# Altium integrated library Cypress PLD Delta39K.IntLib: 82 symbols (part 3 of 21)
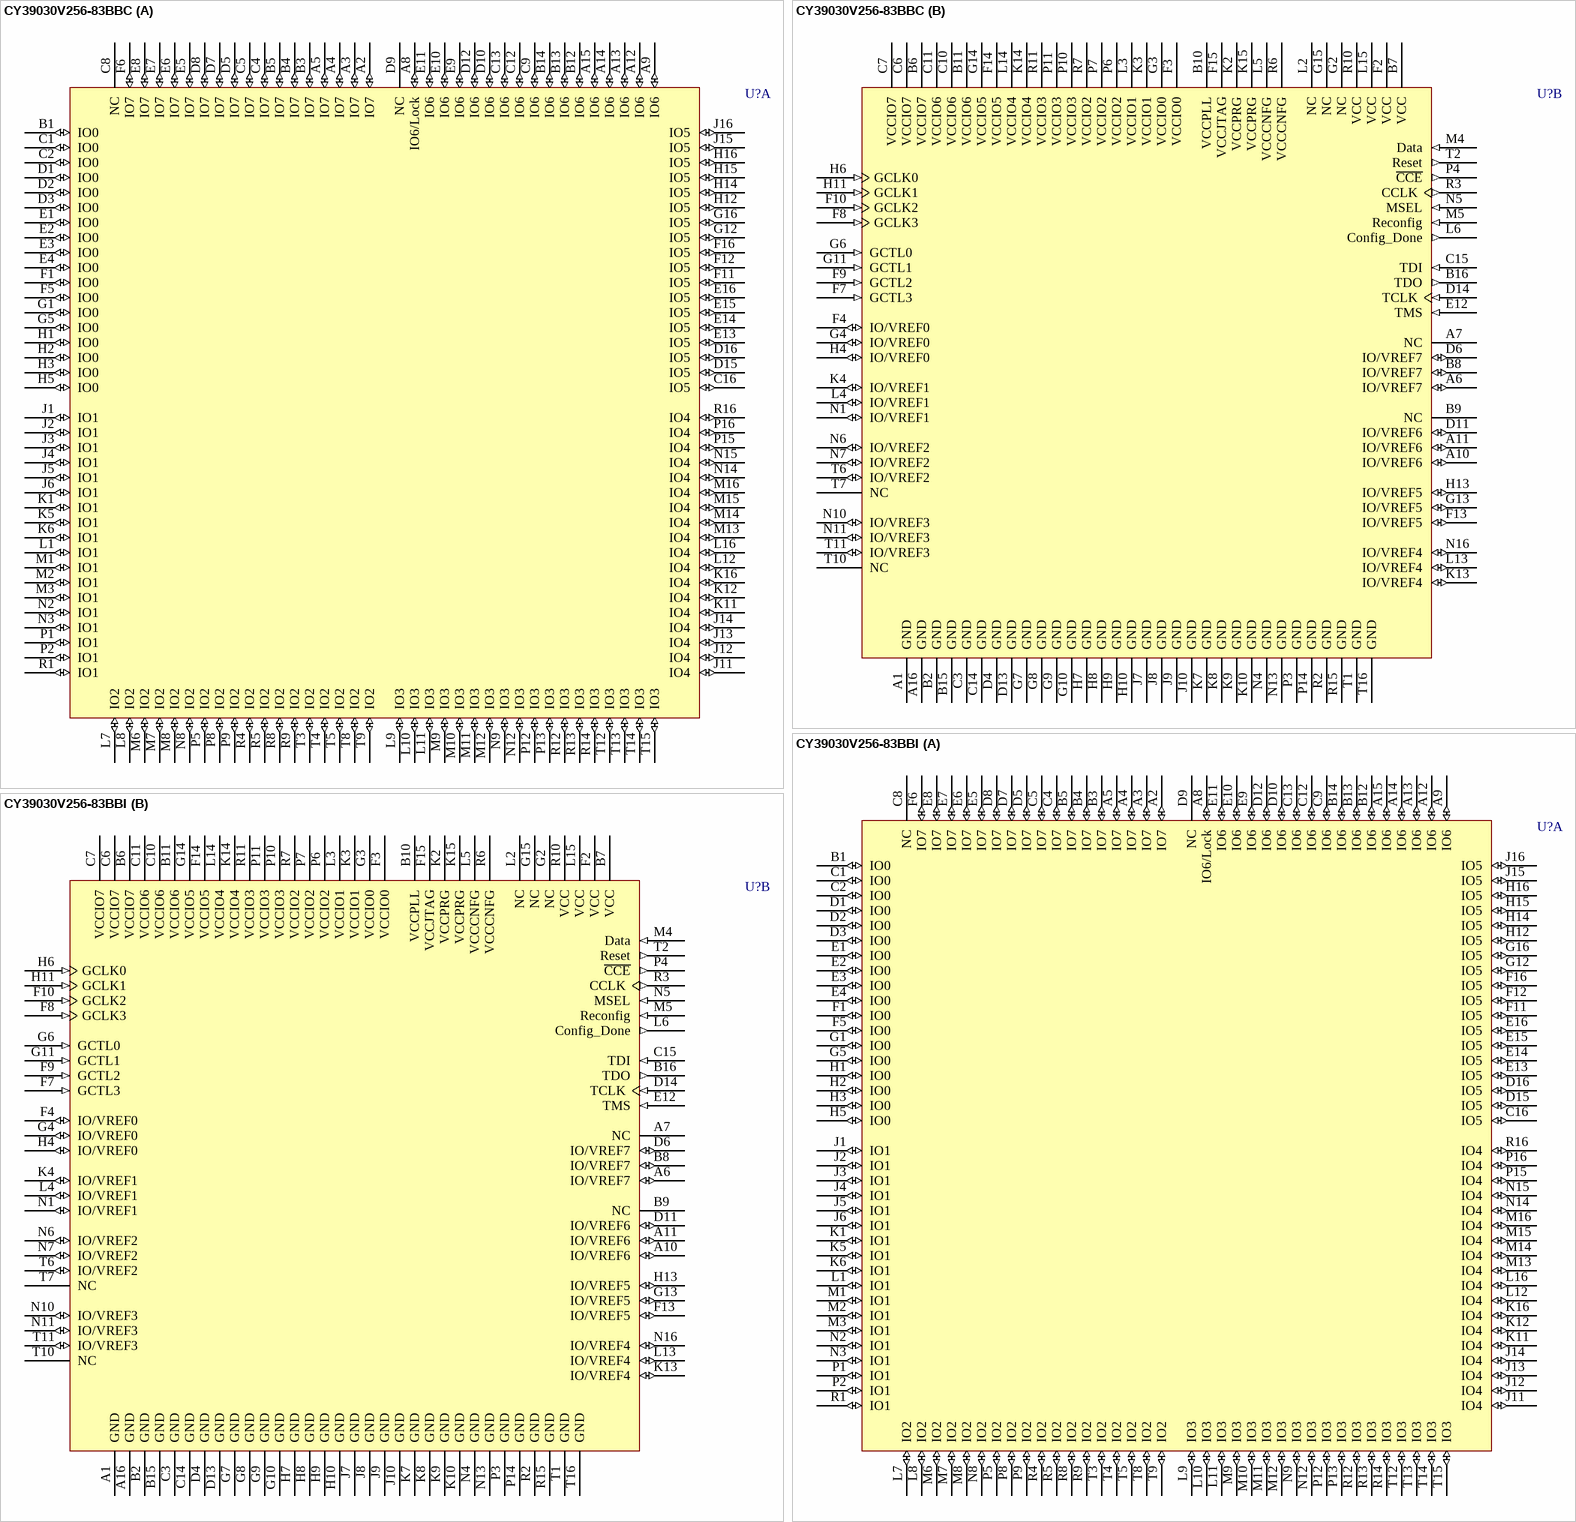
[diagram p80: symbols CY39030V256-83BBC to CY39030V256-83BBI]

## CY39030V256-83BBC
designator U?
Delta39K ISR CPLD, 3.3V/2.5V, 30K Gates, 83 MHz, 256-Ball FBGA, Commercial Grade; ComponentAvailability: Obsolete; Published: 11-Dec-2002; LatestRevisionDate: 13-Apr-2006; LatestRevisionNote: IPC-7351 Footprint Added.; DatasheetVersion: revI, Mar-2005; PackageVersion: revF, Oct-2003; PackageReference: BB256; Publisher: Altium Limited; PackageDescription: 256-Ball Fine Pitch Ball Grid Array 1 mm Pitch (37K & 39K CPLD Devices); Code_JEDEC: MO-192; ComponentLink1Description: Manufacturer Link; ComponentLink1URL: http://www.cypress.com/; ComponentLink2Description: Datasheet; ComponentLink2URL: http://www.cypress.com/portal/server.pt/gateway/PTARGS_0_601270_1522_209_0_43/http%3B/sjapp20.mis.cypress.com%3B7001/publishedcontent/publish/design_resources/datasheets/contents/cy39030v_5.pdf
footprint BB256 (BGA, 256-Leads, Body 17x17mm, Pitch 1mm)
3D model CY39030V256-BB256 (256-Ball Fine Pitch Ball Grid Array 1 mm Pitch (37K & 39K CPLD Devices))
part A pins: A2 IO7 (io) "IO for Bank 7", A3 IO7 (io) "IO for Bank 7", A4 IO7 (io) "IO for Bank 7", A5 IO7 (io) "IO for Bank 7", A8 IO6/Lock (io) "IO in Bank 6 or PLL lock output signal", A9 IO6 (io) "IO for Bank 6", A12 IO6 (io) "IO for Bank 6", A13 IO6 (io) "IO for Bank 6", A14 IO6 (io) "IO for Bank 6", A15 IO6 (io) "IO for Bank 6", B1 IO0 (io) "IO for Bank 0", B3 IO7 (io) "IO for Bank 7", B4 IO7 (io) "IO for Bank 7", B5 IO7 (io) "IO for Bank 7", B12 IO6 (io) "IO for Bank 6", B13 IO6 (io) "IO for Bank 6", B14 IO6 (io) "IO for Bank 6", C1 IO0 (io) "IO for Bank 0", C2 IO0 (io) "IO for Bank 0", C4 IO7 (io) "IO for Bank 7", C5 IO7 (io) "IO for Bank 7", C8 NC "No Connection", C9 IO6 (io) "IO for Bank 6", C12 IO6 (io) "IO for Bank 6", C13 IO6 (io) "IO for Bank 6", C16 IO5 (io) "IO for Bank 5", D1 IO0 (io) "IO for Bank 0", D2 IO0 (io) "IO for Bank 0", D3 IO0 (io) "IO for Bank 0", D5 IO7 (io) "IO for Bank 7", D7 IO7 (io) "IO for Bank 7", D8 IO7 (io) "IO for Bank 7", D9 NC "No Connection", D10 IO6 (io) "IO for Bank 6", D12 IO6 (io) "IO for Bank 6", D15 IO5 (io) "IO for Bank 5", D16 IO5 (io) "IO for Bank 5", E1 IO0 (io) "IO for Bank 0", E2 IO0 (io) "IO for Bank 0", E3 IO0 (io) "IO for Bank 0", E4 IO0 (io) "IO for Bank 0", E5 IO7 (io) "IO for Bank 7", E6 IO7 (io) "IO for Bank 7", E7 IO7 (io) "IO for Bank 7", E8 IO7 (io) "IO for Bank 7", E9 IO6 (io) "IO for Bank 6", E10 IO6 (io) "IO for Bank 6", E11 IO6 (io) "IO for Bank 6", E13 IO5 (io) "IO for Bank 5", E14 IO5 (io) "IO for Bank 5", E15 IO5 (io) "IO for Bank 5", E16 IO5 (io) "IO for Bank 5", F1 IO0 (io) "IO for Bank 0", F5 IO0 (io) "IO for Bank 0", F6 IO7 (io) "IO for Bank 7", F11 IO5 (io) "IO for Bank 5", F12 IO5 (io) "IO for Bank 5", F16 IO5 (io) "IO for Bank 5", G1 IO0 (io) "IO for Bank 0", G5 IO0 (io) "IO for Bank 0", G12 IO5 (io) "IO for Bank 5", G16 IO5 (io) "IO for Bank 5", H1 IO0 (io) "IO for Bank 0", H2 IO0 (io) "IO for Bank 0", H3 IO0 (io) "IO for Bank 0", H5 IO0 (io) "IO for Bank 0", H12 IO5 (io) "IO for Bank 5", H14 IO5 (io) "IO for Bank 5", H15 IO5 (io) "IO for Bank 5", H16 IO5 (io) "IO for Bank 5", J1 IO1 (io) "IO for Bank 1", J2 IO1 (io) "IO for Bank 1", J3 IO1 (io) "IO for Bank 1", J4 IO1 (io) "IO for Bank 1", J5 IO1 (io) "IO for Bank 1", J6 IO1 (io) "IO for Bank 1", J11 IO4 (io) "IO for Bank 4", J12 IO4 (io) "IO for Bank 4", J13 IO4 (io) "IO for Bank 4", J14 IO4 (io) "IO for Bank 4", J15 IO5 (io) "IO for Bank 5", J16 IO5 (io) "IO for Bank 5", K1 IO1 (io) "IO for Bank 1", K5 IO1 (io) "IO for Bank 1", K6 IO1 (io) "IO for Bank 1", K11 IO4 (io) "IO for Bank 4", K12 IO4 (io) "IO for Bank 4", K16 IO4 (io) "IO for Bank 4", L1 IO1 (io) "IO for Bank 1", L7 IO2 (io) "IO for Bank 2", L8 IO2 (io) "IO for Bank 2", L9 IO3 (io) "IO for Bank 3", L10 IO3 (io) "IO for Bank 3", L11 IO3 (io) "IO for Bank 3", L12 IO4 (io) "IO for Bank 4", L16 IO4 (io) "IO for Bank 4", M1 IO1 (io) "IO for Bank 1", M2 IO1 (io) "IO for Bank 1", M3 IO1 (io) "IO for Bank 1", M6 IO2 (io) "IO for Bank 2", M7 IO2 (io) "IO for Bank 2", M8 IO2 (io) "IO for Bank 2", M9 IO3 (io) "IO for Bank 3", M10 IO3 (io) "IO for Bank 3", M11 IO3 (io) "IO for Bank 3", M12 IO3 (io) "IO for Bank 3", M13 IO4 (io) "IO for Bank 4", M14 IO4 (io) "IO for Bank 4", M15 IO4 (io) "IO for Bank 4", M16 IO4 (io) "IO for Bank 4", N2 IO1 (io) "IO for Bank 1", N3 IO1 (io) "IO for Bank 1", N8 IO2 (io) "IO for Bank 2", N9 IO3 (io) "IO for Bank 3", N12 IO3 (io) "IO for Bank 3", N14 IO4 (io) "IO for Bank 4", N15 IO4 (io) "IO for Bank 4", P1 IO1 (io) "IO for Bank 1", P2 IO1 (io) "IO for Bank 1", P5 IO2 (io) "IO for Bank 2", P8 IO2 (io) "IO for Bank 2", P9 IO2 (io) "IO for Bank 2", P12 IO3 (io) "IO for Bank 3", P13 IO3 (io) "IO for Bank 3", P15 IO4 (io) "IO for Bank 4", P16 IO4 (io) "IO for Bank 4", R1 IO1 (io) "IO for Bank 1", R4 IO2 (io) "IO for Bank 2", R5 IO2 (io) "IO for Bank 2", R8 IO2 (io) "IO for Bank 2", R9 IO2 (io) "IO for Bank 2", R12 IO3 (io) "IO for Bank 3", R13 IO3 (io) "IO for Bank 3", R14 IO3 (io) "IO for Bank 3", R16 IO4 (io) "IO for Bank 4", T3 IO2 (io) "IO for Bank 2", T4 IO2 (io) "IO for Bank 2", T5 IO2 (io) "IO for Bank 2", T8 IO2 (io) "IO for Bank 2", T9 IO2 (io) "IO for Bank 2", T12 IO3 (io) "IO for Bank 3", T13 IO3 (io) "IO for Bank 3", T14 IO3 (io) "IO for Bank 3", T15 IO3 (io) "IO for Bank 3"
part B pins: A1 GND (power) "Ground", A6 IO/VREF7 (io) "IO or Reference Voltage for Bank 7", A7 NC "No Connection", A10 IO/VREF6 (io) "IO or Reference Voltage for Bank 6", A11 IO/VREF6 (io) "IO or Reference Voltage for Bank 6", A16 GND (power) "Ground", B2 GND (power) "Ground", B6 VCCIO7 (power) "VCC for I/O bank 7", B7 VCC (power) "Operating Voltage", B8 IO/VREF7 (io) "IO or Reference Voltage for Bank 7", B9 NC "No Connection", B10 VCCPLL (power) "VCC for PLL", B11 VCCIO6 (power) "VCC for I/O bank 6", B15 GND (power) "Ground", B16 TDO (out) "JTAG Test Data Out", C3 GND (power) "Ground", C6 VCCIO7 (power) "VCC for I/O bank 7", C7 VCCIO7 (power) "VCC for I/O bank 7", C10 VCCIO6 (power) "VCC for I/O bank 6", C11 VCCIO6 (power) "VCC for I/O bank 6", C14 GND (power) "Ground", C15 TDI (in) "JTAG Test Data In", D4 GND (power) "Ground", D6 IO/VREF7 (io) "IO or Reference Voltage for Bank 7", D11 IO/VREF6 (io) "IO or Reference Voltage for Bank 6", D13 GND (power) "Ground", D14 TCLK (in) "JTAG Test Clock", E12 TMS (in) "JTAG Test Mode Select", F2 VCC (power) "Operating Voltage", F3 VCCIO0 (power) "VCC for I/O bank 0", F4 IO/VREF0 (io) "IO or Reference Voltage for Bank 0", F7 GCTL3 (in) "Global Control signal 3", F8 GCLK3 (in) "Global Clock signal 3", F9 GCTL2 (in) "Global Control signal 2", F10 GCLK2 (in) "Global Clock signal 2", F13 IO/VREF5 (io) "IO or Reference Voltage for Bank 5", F14 VCCIO5 (power) "VCC for I/O bank 5", F15 VCCJTAG (power) "VCC for JTAG pins", G2 NC "No Connection", G3 VCCIO0 (power) "VCC for I/O bank 0", G4 IO/VREF0 (io) "IO or Reference Voltage for Bank 0", G6 GCTL0 (in) "Global Control signal 0", G7 GND (power) "Ground", G8 GND (power) "Ground", G9 GND (power) "Ground", G10 GND (power) "Ground", G11 GCTL1 (in) "Global Control signal 1", G13 IO/VREF5 (io) "IO or Reference Voltage for Bank 5", G14 VCCIO5 (power) "VCC for I/O bank 5", G15 NC "No Connection", H4 IO/VREF0 (io) "IO or Reference Voltage for Bank 0", H6 GCLK0 (in) "Global Clock signal 0", H7 GND (power) "Ground", H8 GND (power) "Ground", H9 GND (power) "Ground", H10 GND (power) "Ground", H11 GCLK1 (in) "Global Clock signal 1", H13 IO/VREF5 (io) "IO or Reference Voltage for Bank 5", J7 GND (power) "Ground", J8 GND (power) "Ground", J9 GND (power) "Ground", J10 GND (power) "Ground", K2 VCCPRG (power) "VCC for programming Self-Boot solution embedded boot PROM", K3 VCCIO1 (power) "VCC for I/O bank 1", K4 IO/VREF1 (io) "IO or Reference Voltage for Bank 1", K7 GND (power) "Ground", K8 GND (power) "Ground", K9 GND (power) "Ground", K10 GND (power) "Ground", K13 IO/VREF4 (io) "IO or Reference Voltage for Bank 4", K14 VCCIO4 (power) "VCC for I/O bank 4", K15 VCCPRG (power) "VCC for programming Self-Boot solution embedded boot PROM", L2 NC "No Connection", L3 VCCIO1 (power) "VCC for I/O bank 1", L4 IO/VREF1 (io) "IO or Reference Voltage for Bank 1", L5 VCCCNFG (power) "VCC for Configuration port", L6 Config_Done (out) "Flag indicating that configuration is complete", L13 IO/VREF4 (io) "IO or Reference Voltage for Bank 4", L14 VCCIO4 (power) "VCC for I/O bank 4", L15 VCC (power) "Operating Voltage", M4 Data (in) "Pin to receive configuration data from the external boot PROM", M5 Reconfig (in) "Pin to start configuration of Delta39K", N1 IO/VREF1 (io) "IO or Reference Voltage for Bank 1", N4 GND (power) "Ground", N5 MSEL (in) "Mode Select Pin", N6 IO/VREF2 (io) "IO or Reference Voltage for Bank 2", N7 IO/VREF2 (io) "IO or Reference Voltage for Bank 2", N10 IO/VREF3 (io) "IO or Reference Voltage for Bank 3", N11 IO/VREF3 (io) "IO or Reference Voltage for Bank 3", N13 GND (power) "Ground", N16 IO/VREF4 (io) "IO or Reference Voltage for Bank 4", P3 GND (power) "Ground", P4 ~{CCE} (out) "Chip select for the external boot PROM (active low)", P6 VCCIO2 (power) "VCC for I/O bank 2", P7 VCCIO2 (power) "VCC for I/O bank 2", P10 VCCIO3 (power) "VCC for I/O bank 3", P11 VCCIO3 (power) "VCC for I/O bank 3", P14 GND (power) "Ground", R2 GND (power) "Ground", R3 CCLK (out) "Configuration Clock for serial interface with the external boot PROM", R6 VCCCNFG (power) "VCC for Configuration port", R7 VCCIO2 (power) "VCC for I/O bank 2", R10 VCC (power) "Operating Voltage", R11 VCCIO3 (power) "VCC for I/O bank 3", R15 GND (power) "Ground", T1 GND (power) "Ground", T2 Reset (out) "Reset signal to interface with the external boot PROM", T6 IO/VREF2 (io) "IO or Reference Voltage for Bank 2", T7 NC "No Connection", T10 NC "No Connection", T11 IO/VREF3 (io) "IO or Reference Voltage for Bank 3", T16 GND (power) "Ground"

## CY39030V256-83BBI
designator U?
Delta39K ISR CPLD, 3.3V/2.5V, 30K Gates, 83 MHz, 256-Ball FBGA, Industrial Grade; ComponentAvailability: Obsolete; Published: 11-Dec-2002; LatestRevisionDate: 13-Apr-2006; LatestRevisionNote: IPC-7351 Footprint Added.; DatasheetVersion: revI, Mar-2005; PackageVersion: revF, Oct-2003; PackageReference: BB256; Publisher: Altium Limited; PackageDescription: 256-Ball Fine Pitch Ball Grid Array 1 mm Pitch (37K & 39K CPLD Devices); Code_JEDEC: MO-192; ComponentLink1Description: Manufacturer Link; ComponentLink1URL: http://www.cypress.com/; ComponentLink2Description: Datasheet; ComponentLink2URL: http://www.cypress.com/portal/server.pt/gateway/PTARGS_0_601270_1522_209_0_43/http%3B/sjapp20.mis.cypress.com%3B7001/publishedcontent/publish/design_resources/datasheets/contents/cy39030v_5.pdf
footprint BB256 (BGA, 256-Leads, Body 17x17mm, Pitch 1mm)
3D model CY39030V256-BB256 (256-Ball Fine Pitch Ball Grid Array 1 mm Pitch (37K & 39K CPLD Devices))
part A pins: A2 IO7 (io) "IO for Bank 7", A3 IO7 (io) "IO for Bank 7", A4 IO7 (io) "IO for Bank 7", A5 IO7 (io) "IO for Bank 7", A8 IO6/Lock (io) "IO in Bank 6 or PLL lock output signal", A9 IO6 (io) "IO for Bank 6", A12 IO6 (io) "IO for Bank 6", A13 IO6 (io) "IO for Bank 6", A14 IO6 (io) "IO for Bank 6", A15 IO6 (io) "IO for Bank 6", B1 IO0 (io) "IO for Bank 0", B3 IO7 (io) "IO for Bank 7", B4 IO7 (io) "IO for Bank 7", B5 IO7 (io) "IO for Bank 7", B12 IO6 (io) "IO for Bank 6", B13 IO6 (io) "IO for Bank 6", B14 IO6 (io) "IO for Bank 6", C1 IO0 (io) "IO for Bank 0", C2 IO0 (io) "IO for Bank 0", C4 IO7 (io) "IO for Bank 7", C5 IO7 (io) "IO for Bank 7", C8 NC "No Connection", C9 IO6 (io) "IO for Bank 6", C12 IO6 (io) "IO for Bank 6", C13 IO6 (io) "IO for Bank 6", C16 IO5 (io) "IO for Bank 5", D1 IO0 (io) "IO for Bank 0", D2 IO0 (io) "IO for Bank 0", D3 IO0 (io) "IO for Bank 0", D5 IO7 (io) "IO for Bank 7", D7 IO7 (io) "IO for Bank 7", D8 IO7 (io) "IO for Bank 7", D9 NC "No Connection", D10 IO6 (io) "IO for Bank 6", D12 IO6 (io) "IO for Bank 6", D15 IO5 (io) "IO for Bank 5", D16 IO5 (io) "IO for Bank 5", E1 IO0 (io) "IO for Bank 0", E2 IO0 (io) "IO for Bank 0", E3 IO0 (io) "IO for Bank 0", E4 IO0 (io) "IO for Bank 0", E5 IO7 (io) "IO for Bank 7", E6 IO7 (io) "IO for Bank 7", E7 IO7 (io) "IO for Bank 7", E8 IO7 (io) "IO for Bank 7", E9 IO6 (io) "IO for Bank 6", E10 IO6 (io) "IO for Bank 6", E11 IO6 (io) "IO for Bank 6", E13 IO5 (io) "IO for Bank 5", E14 IO5 (io) "IO for Bank 5", E15 IO5 (io) "IO for Bank 5", E16 IO5 (io) "IO for Bank 5", F1 IO0 (io) "IO for Bank 0", F5 IO0 (io) "IO for Bank 0", F6 IO7 (io) "IO for Bank 7", F11 IO5 (io) "IO for Bank 5", F12 IO5 (io) "IO for Bank 5", F16 IO5 (io) "IO for Bank 5", G1 IO0 (io) "IO for Bank 0", G5 IO0 (io) "IO for Bank 0", G12 IO5 (io) "IO for Bank 5", G16 IO5 (io) "IO for Bank 5", H1 IO0 (io) "IO for Bank 0", H2 IO0 (io) "IO for Bank 0", H3 IO0 (io) "IO for Bank 0", H5 IO0 (io) "IO for Bank 0", H12 IO5 (io) "IO for Bank 5", H14 IO5 (io) "IO for Bank 5", H15 IO5 (io) "IO for Bank 5", H16 IO5 (io) "IO for Bank 5", J1 IO1 (io) "IO for Bank 1", J2 IO1 (io) "IO for Bank 1", J3 IO1 (io) "IO for Bank 1", J4 IO1 (io) "IO for Bank 1", J5 IO1 (io) "IO for Bank 1", J6 IO1 (io) "IO for Bank 1", J11 IO4 (io) "IO for Bank 4", J12 IO4 (io) "IO for Bank 4", J13 IO4 (io) "IO for Bank 4", J14 IO4 (io) "IO for Bank 4", J15 IO5 (io) "IO for Bank 5", J16 IO5 (io) "IO for Bank 5", K1 IO1 (io) "IO for Bank 1", K5 IO1 (io) "IO for Bank 1", K6 IO1 (io) "IO for Bank 1", K11 IO4 (io) "IO for Bank 4", K12 IO4 (io) "IO for Bank 4", K16 IO4 (io) "IO for Bank 4", L1 IO1 (io) "IO for Bank 1", L7 IO2 (io) "IO for Bank 2", L8 IO2 (io) "IO for Bank 2", L9 IO3 (io) "IO for Bank 3", L10 IO3 (io) "IO for Bank 3", L11 IO3 (io) "IO for Bank 3", L12 IO4 (io) "IO for Bank 4", L16 IO4 (io) "IO for Bank 4", M1 IO1 (io) "IO for Bank 1", M2 IO1 (io) "IO for Bank 1", M3 IO1 (io) "IO for Bank 1", M6 IO2 (io) "IO for Bank 2", M7 IO2 (io) "IO for Bank 2", M8 IO2 (io) "IO for Bank 2", M9 IO3 (io) "IO for Bank 3", M10 IO3 (io) "IO for Bank 3", M11 IO3 (io) "IO for Bank 3", M12 IO3 (io) "IO for Bank 3", M13 IO4 (io) "IO for Bank 4", M14 IO4 (io) "IO for Bank 4", M15 IO4 (io) "IO for Bank 4", M16 IO4 (io) "IO for Bank 4", N2 IO1 (io) "IO for Bank 1", N3 IO1 (io) "IO for Bank 1", N8 IO2 (io) "IO for Bank 2", N9 IO3 (io) "IO for Bank 3", N12 IO3 (io) "IO for Bank 3", N14 IO4 (io) "IO for Bank 4", N15 IO4 (io) "IO for Bank 4", P1 IO1 (io) "IO for Bank 1", P2 IO1 (io) "IO for Bank 1", P5 IO2 (io) "IO for Bank 2", P8 IO2 (io) "IO for Bank 2", P9 IO2 (io) "IO for Bank 2", P12 IO3 (io) "IO for Bank 3", P13 IO3 (io) "IO for Bank 3", P15 IO4 (io) "IO for Bank 4", P16 IO4 (io) "IO for Bank 4", R1 IO1 (io) "IO for Bank 1", R4 IO2 (io) "IO for Bank 2", R5 IO2 (io) "IO for Bank 2", R8 IO2 (io) "IO for Bank 2", R9 IO2 (io) "IO for Bank 2", R12 IO3 (io) "IO for Bank 3", R13 IO3 (io) "IO for Bank 3", R14 IO3 (io) "IO for Bank 3", R16 IO4 (io) "IO for Bank 4", T3 IO2 (io) "IO for Bank 2", T4 IO2 (io) "IO for Bank 2", T5 IO2 (io) "IO for Bank 2", T8 IO2 (io) "IO for Bank 2", T9 IO2 (io) "IO for Bank 2", T12 IO3 (io) "IO for Bank 3", T13 IO3 (io) "IO for Bank 3", T14 IO3 (io) "IO for Bank 3", T15 IO3 (io) "IO for Bank 3"
part B pins: A1 GND (power) "Ground", A6 IO/VREF7 (io) "IO or Reference Voltage for Bank 7", A7 NC "No Connection", A10 IO/VREF6 (io) "IO or Reference Voltage for Bank 6", A11 IO/VREF6 (io) "IO or Reference Voltage for Bank 6", A16 GND (power) "Ground", B2 GND (power) "Ground", B6 VCCIO7 (power) "VCC for I/O bank 7", B7 VCC (power) "Operating Voltage", B8 IO/VREF7 (io) "IO or Reference Voltage for Bank 7", B9 NC "No Connection", B10 VCCPLL (power) "VCC for PLL", B11 VCCIO6 (power) "VCC for I/O bank 6", B15 GND (power) "Ground", B16 TDO (out) "JTAG Test Data Out", C3 GND (power) "Ground", C6 VCCIO7 (power) "VCC for I/O bank 7", C7 VCCIO7 (power) "VCC for I/O bank 7", C10 VCCIO6 (power) "VCC for I/O bank 6", C11 VCCIO6 (power) "VCC for I/O bank 6", C14 GND (power) "Ground", C15 TDI (in) "JTAG Test Data In", D4 GND (power) "Ground", D6 IO/VREF7 (io) "IO or Reference Voltage for Bank 7", D11 IO/VREF6 (io) "IO or Reference Voltage for Bank 6", D13 GND (power) "Ground", D14 TCLK (in) "JTAG Test Clock", E12 TMS (in) "JTAG Test Mode Select", F2 VCC (power) "Operating Voltage", F3 VCCIO0 (power) "VCC for I/O bank 0", F4 IO/VREF0 (io) "IO or Reference Voltage for Bank 0", F7 GCTL3 (in) "Global Control signal 3", F8 GCLK3 (in) "Global Clock signal 3", F9 GCTL2 (in) "Global Control signal 2", F10 GCLK2 (in) "Global Clock signal 2", F13 IO/VREF5 (io) "IO or Reference Voltage for Bank 5", F14 VCCIO5 (power) "VCC for I/O bank 5", F15 VCCJTAG (power) "VCC for JTAG pins", G2 NC "No Connection", G3 VCCIO0 (power) "VCC for I/O bank 0", G4 IO/VREF0 (io) "IO or Reference Voltage for Bank 0", G6 GCTL0 (in) "Global Control signal 0", G7 GND (power) "Ground", G8 GND (power) "Ground", G9 GND (power) "Ground", G10 GND (power) "Ground", G11 GCTL1 (in) "Global Control signal 1", G13 IO/VREF5 (io) "IO or Reference Voltage for Bank 5", G14 VCCIO5 (power) "VCC for I/O bank 5", G15 NC "No Connection", H4 IO/VREF0 (io) "IO or Reference Voltage for Bank 0", H6 GCLK0 (in) "Global Clock signal 0", H7 GND (power) "Ground", H8 GND (power) "Ground", H9 GND (power) "Ground", H10 GND (power) "Ground", H11 GCLK1 (in) "Global Clock signal 1", H13 IO/VREF5 (io) "IO or Reference Voltage for Bank 5", J7 GND (power) "Ground", J8 GND (power) "Ground", J9 GND (power) "Ground", J10 GND (power) "Ground", K2 VCCPRG (power) "VCC for programming Self-Boot solution embedded boot PROM", K3 VCCIO1 (power) "VCC for I/O bank 1", K4 IO/VREF1 (io) "IO or Reference Voltage for Bank 1", K7 GND (power) "Ground", K8 GND (power) "Ground", K9 GND (power) "Ground", K10 GND (power) "Ground", K13 IO/VREF4 (io) "IO or Reference Voltage for Bank 4", K14 VCCIO4 (power) "VCC for I/O bank 4", K15 VCCPRG (power) "VCC for programming Self-Boot solution embedded boot PROM", L2 NC "No Connection", L3 VCCIO1 (power) "VCC for I/O bank 1", L4 IO/VREF1 (io) "IO or Reference Voltage for Bank 1", L5 VCCCNFG (power) "VCC for Configuration port", L6 Config_Done (out) "Flag indicating that configuration is complete", L13 IO/VREF4 (io) "IO or Reference Voltage for Bank 4", L14 VCCIO4 (power) "VCC for I/O bank 4", L15 VCC (power) "Operating Voltage", M4 Data (in) "Pin to receive configuration data from the external boot PROM", M5 Reconfig (in) "Pin to start configuration of Delta39K", N1 IO/VREF1 (io) "IO or Reference Voltage for Bank 1", N4 GND (power) "Ground", N5 MSEL (in) "Mode Select Pin", N6 IO/VREF2 (io) "IO or Reference Voltage for Bank 2", N7 IO/VREF2 (io) "IO or Reference Voltage for Bank 2", N10 IO/VREF3 (io) "IO or Reference Voltage for Bank 3", N11 IO/VREF3 (io) "IO or Reference Voltage for Bank 3", N13 GND (power) "Ground", N16 IO/VREF4 (io) "IO or Reference Voltage for Bank 4", P3 GND (power) "Ground", P4 ~{CCE} (out) "Chip select for the external boot PROM (active low)", P6 VCCIO2 (power) "VCC for I/O bank 2", P7 VCCIO2 (power) "VCC for I/O bank 2", P10 VCCIO3 (power) "VCC for I/O bank 3", P11 VCCIO3 (power) "VCC for I/O bank 3", P14 GND (power) "Ground", R2 GND (power) "Ground", R3 CCLK (out) "Configuration Clock for serial interface with the external boot PROM", R6 VCCCNFG (power) "VCC for Configuration port", R7 VCCIO2 (power) "VCC for I/O bank 2", R10 VCC (power) "Operating Voltage", R11 VCCIO3 (power) "VCC for I/O bank 3", R15 GND (power) "Ground", T1 GND (power) "Ground", T2 Reset (out) "Reset signal to interface with the external boot PROM", T6 IO/VREF2 (io) "IO or Reference Voltage for Bank 2", T7 NC "No Connection", T10 NC "No Connection", T11 IO/VREF3 (io) "IO or Reference Voltage for Bank 3", T16 GND (power) "Ground"

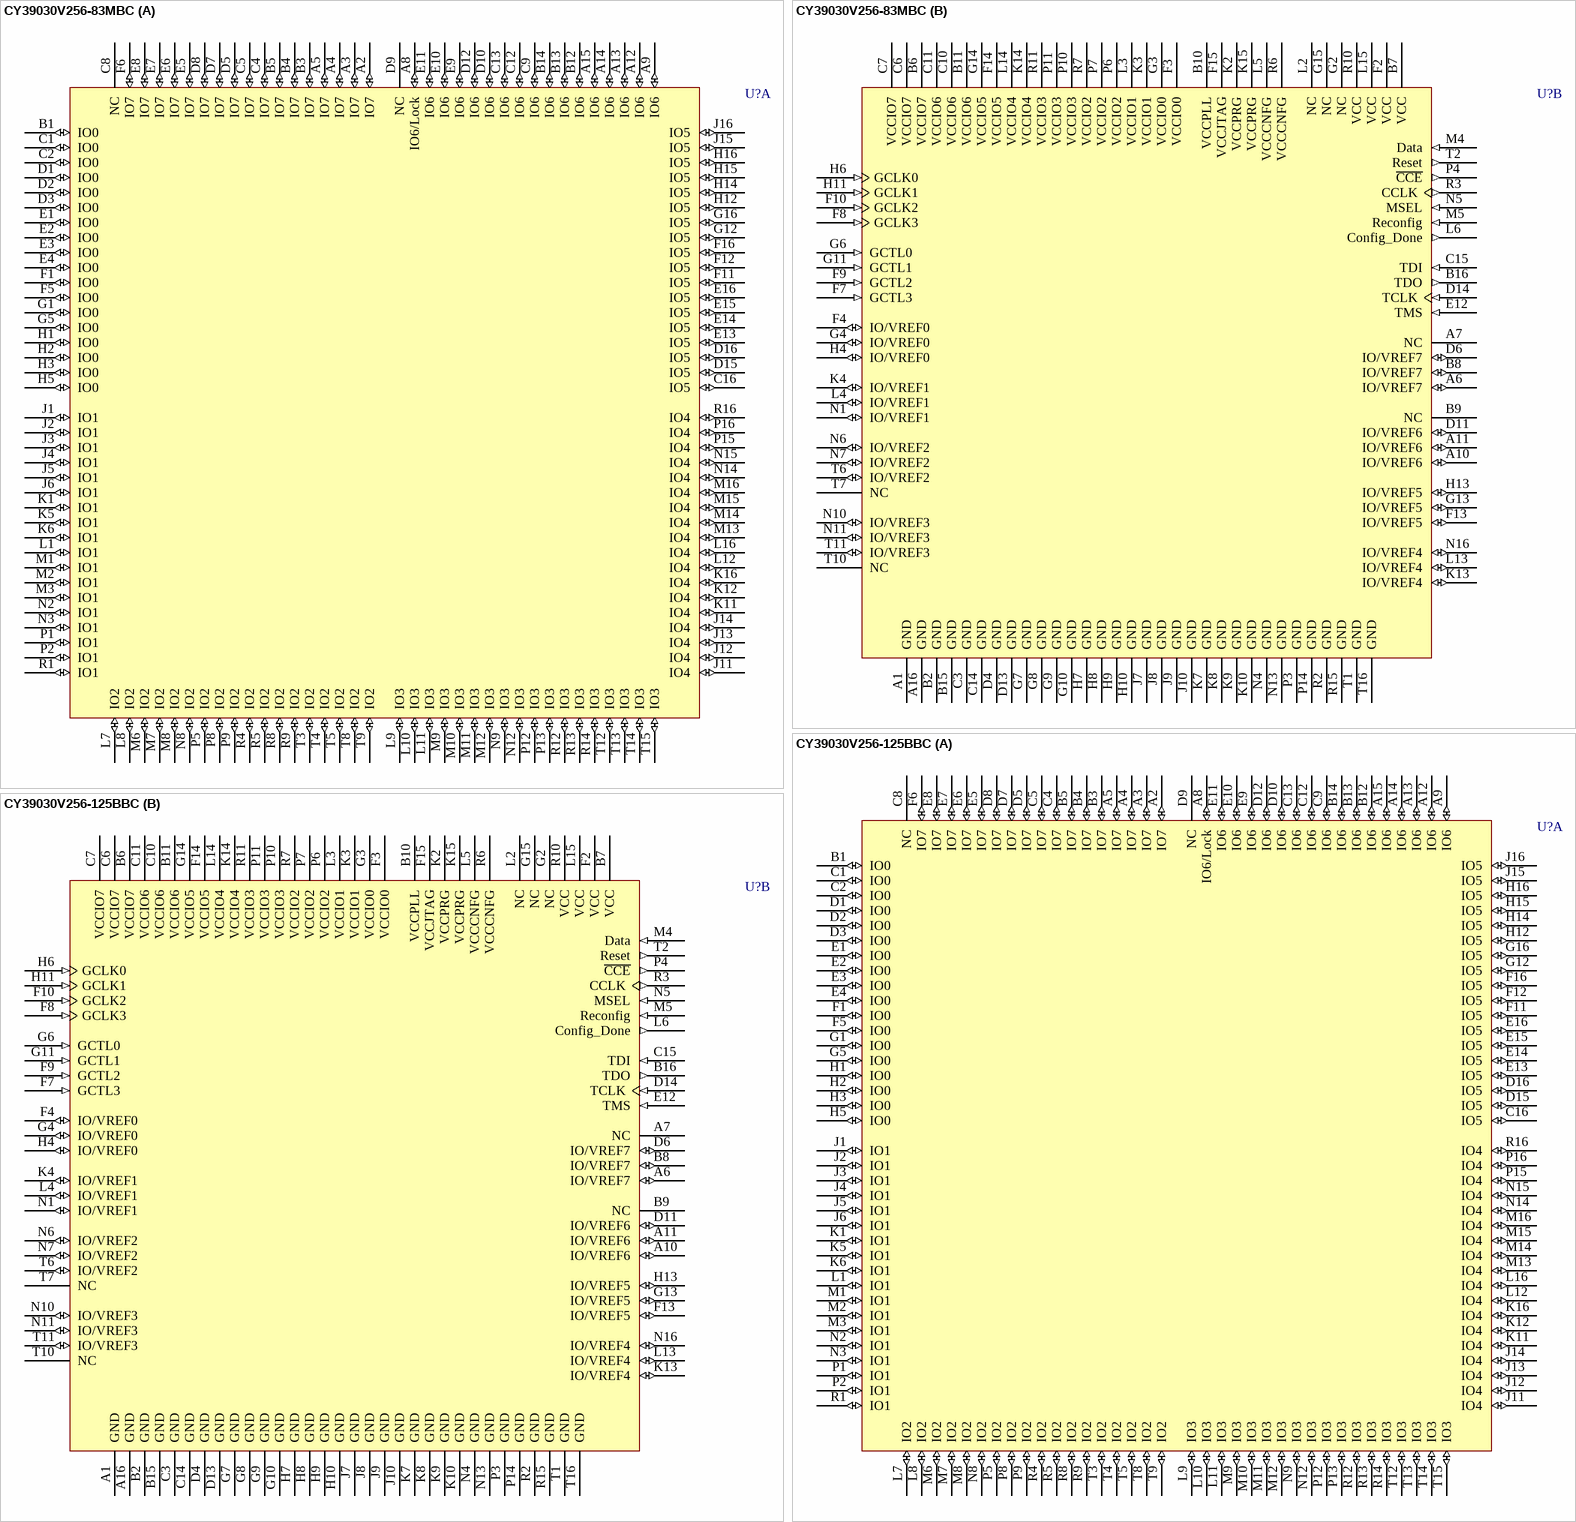
[diagram p6: symbols CY39030V256-83MBC to CY39030V256-125BBC]

## CY39030V256-83MBC
designator U?
Delta39K ISR CPLD, 3.3V/2.5V, 30K Gates, 83 MHz, 256-Ball FBGA, Commercial Grade; ComponentAvailability: Obsolete; Published: 11-Dec-2002; LatestRevisionDate: 13-Apr-2006; LatestRevisionNote: IPC-7351 Footprint Added.; DatasheetVersion: revI, Mar-2005; PackageVersion: Mar-2002; PackageReference: MB256; Publisher: Altium Limited; PackageDescription: 256-Ball Fine Pitch Ball Grid Array 1 mm Pitch; ComponentLink1Description: Manufacturer Link; ComponentLink1URL: http://www.cypress.com/; ComponentLink2Description: Datasheet; ComponentLink2URL: http://www.cypress.com/portal/server.pt/gateway/PTARGS_0_601270_1522_209_0_43/http%3B/sjapp20.mis.cypress.com%3B7001/publishedcontent/publish/design_resources/datasheets/contents/cy39030v_5.pdf
footprint MB256 (BGA, 256-Leads, Body 17x17mm, Pitch 1mm)
3D model CY39030V256-MB256 (256-Ball Fine Pitch Ball Grid Array 1 mm Pitch)
part A pins: A2 IO7 (io) "IO for Bank 7", A3 IO7 (io) "IO for Bank 7", A4 IO7 (io) "IO for Bank 7", A5 IO7 (io) "IO for Bank 7", A8 IO6/Lock (io) "IO in Bank 6 or PLL lock output signal", A9 IO6 (io) "IO for Bank 6", A12 IO6 (io) "IO for Bank 6", A13 IO6 (io) "IO for Bank 6", A14 IO6 (io) "IO for Bank 6", A15 IO6 (io) "IO for Bank 6", B1 IO0 (io) "IO for Bank 0", B3 IO7 (io) "IO for Bank 7", B4 IO7 (io) "IO for Bank 7", B5 IO7 (io) "IO for Bank 7", B12 IO6 (io) "IO for Bank 6", B13 IO6 (io) "IO for Bank 6", B14 IO6 (io) "IO for Bank 6", C1 IO0 (io) "IO for Bank 0", C2 IO0 (io) "IO for Bank 0", C4 IO7 (io) "IO for Bank 7", C5 IO7 (io) "IO for Bank 7", C8 NC "No Connection", C9 IO6 (io) "IO for Bank 6", C12 IO6 (io) "IO for Bank 6", C13 IO6 (io) "IO for Bank 6", C16 IO5 (io) "IO for Bank 5", D1 IO0 (io) "IO for Bank 0", D2 IO0 (io) "IO for Bank 0", D3 IO0 (io) "IO for Bank 0", D5 IO7 (io) "IO for Bank 7", D7 IO7 (io) "IO for Bank 7", D8 IO7 (io) "IO for Bank 7", D9 NC "No Connection", D10 IO6 (io) "IO for Bank 6", D12 IO6 (io) "IO for Bank 6", D15 IO5 (io) "IO for Bank 5", D16 IO5 (io) "IO for Bank 5", E1 IO0 (io) "IO for Bank 0", E2 IO0 (io) "IO for Bank 0", E3 IO0 (io) "IO for Bank 0", E4 IO0 (io) "IO for Bank 0", E5 IO7 (io) "IO for Bank 7", E6 IO7 (io) "IO for Bank 7", E7 IO7 (io) "IO for Bank 7", E8 IO7 (io) "IO for Bank 7", E9 IO6 (io) "IO for Bank 6", E10 IO6 (io) "IO for Bank 6", E11 IO6 (io) "IO for Bank 6", E13 IO5 (io) "IO for Bank 5", E14 IO5 (io) "IO for Bank 5", E15 IO5 (io) "IO for Bank 5", E16 IO5 (io) "IO for Bank 5", F1 IO0 (io) "IO for Bank 0", F5 IO0 (io) "IO for Bank 0", F6 IO7 (io) "IO for Bank 7", F11 IO5 (io) "IO for Bank 5", F12 IO5 (io) "IO for Bank 5", F16 IO5 (io) "IO for Bank 5", G1 IO0 (io) "IO for Bank 0", G5 IO0 (io) "IO for Bank 0", G12 IO5 (io) "IO for Bank 5", G16 IO5 (io) "IO for Bank 5", H1 IO0 (io) "IO for Bank 0", H2 IO0 (io) "IO for Bank 0", H3 IO0 (io) "IO for Bank 0", H5 IO0 (io) "IO for Bank 0", H12 IO5 (io) "IO for Bank 5", H14 IO5 (io) "IO for Bank 5", H15 IO5 (io) "IO for Bank 5", H16 IO5 (io) "IO for Bank 5", J1 IO1 (io) "IO for Bank 1", J2 IO1 (io) "IO for Bank 1", J3 IO1 (io) "IO for Bank 1", J4 IO1 (io) "IO for Bank 1", J5 IO1 (io) "IO for Bank 1", J6 IO1 (io) "IO for Bank 1", J11 IO4 (io) "IO for Bank 4", J12 IO4 (io) "IO for Bank 4", J13 IO4 (io) "IO for Bank 4", J14 IO4 (io) "IO for Bank 4", J15 IO5 (io) "IO for Bank 5", J16 IO5 (io) "IO for Bank 5", K1 IO1 (io) "IO for Bank 1", K5 IO1 (io) "IO for Bank 1", K6 IO1 (io) "IO for Bank 1", K11 IO4 (io) "IO for Bank 4", K12 IO4 (io) "IO for Bank 4", K16 IO4 (io) "IO for Bank 4", L1 IO1 (io) "IO for Bank 1", L7 IO2 (io) "IO for Bank 2", L8 IO2 (io) "IO for Bank 2", L9 IO3 (io) "IO for Bank 3", L10 IO3 (io) "IO for Bank 3", L11 IO3 (io) "IO for Bank 3", L12 IO4 (io) "IO for Bank 4", L16 IO4 (io) "IO for Bank 4", M1 IO1 (io) "IO for Bank 1", M2 IO1 (io) "IO for Bank 1", M3 IO1 (io) "IO for Bank 1", M6 IO2 (io) "IO for Bank 2", M7 IO2 (io) "IO for Bank 2", M8 IO2 (io) "IO for Bank 2", M9 IO3 (io) "IO for Bank 3", M10 IO3 (io) "IO for Bank 3", M11 IO3 (io) "IO for Bank 3", M12 IO3 (io) "IO for Bank 3", M13 IO4 (io) "IO for Bank 4", M14 IO4 (io) "IO for Bank 4", M15 IO4 (io) "IO for Bank 4", M16 IO4 (io) "IO for Bank 4", N2 IO1 (io) "IO for Bank 1", N3 IO1 (io) "IO for Bank 1", N8 IO2 (io) "IO for Bank 2", N9 IO3 (io) "IO for Bank 3", N12 IO3 (io) "IO for Bank 3", N14 IO4 (io) "IO for Bank 4", N15 IO4 (io) "IO for Bank 4", P1 IO1 (io) "IO for Bank 1", P2 IO1 (io) "IO for Bank 1", P5 IO2 (io) "IO for Bank 2", P8 IO2 (io) "IO for Bank 2", P9 IO2 (io) "IO for Bank 2", P12 IO3 (io) "IO for Bank 3", P13 IO3 (io) "IO for Bank 3", P15 IO4 (io) "IO for Bank 4", P16 IO4 (io) "IO for Bank 4", R1 IO1 (io) "IO for Bank 1", R4 IO2 (io) "IO for Bank 2", R5 IO2 (io) "IO for Bank 2", R8 IO2 (io) "IO for Bank 2", R9 IO2 (io) "IO for Bank 2", R12 IO3 (io) "IO for Bank 3", R13 IO3 (io) "IO for Bank 3", R14 IO3 (io) "IO for Bank 3", R16 IO4 (io) "IO for Bank 4", T3 IO2 (io) "IO for Bank 2", T4 IO2 (io) "IO for Bank 2", T5 IO2 (io) "IO for Bank 2", T8 IO2 (io) "IO for Bank 2", T9 IO2 (io) "IO for Bank 2", T12 IO3 (io) "IO for Bank 3", T13 IO3 (io) "IO for Bank 3", T14 IO3 (io) "IO for Bank 3", T15 IO3 (io) "IO for Bank 3"
part B pins: A1 GND (power) "Ground", A6 IO/VREF7 (io) "IO or Reference Voltage for Bank 7", A7 NC "No Connection", A10 IO/VREF6 (io) "IO or Reference Voltage for Bank 6", A11 IO/VREF6 (io) "IO or Reference Voltage for Bank 6", A16 GND (power) "Ground", B2 GND (power) "Ground", B6 VCCIO7 (power) "VCC for I/O bank 7", B7 VCC (power) "Operating Voltage", B8 IO/VREF7 (io) "IO or Reference Voltage for Bank 7", B9 NC "No Connection", B10 VCCPLL (power) "VCC for PLL", B11 VCCIO6 (power) "VCC for I/O bank 6", B15 GND (power) "Ground", B16 TDO (out) "JTAG Test Data Out", C3 GND (power) "Ground", C6 VCCIO7 (power) "VCC for I/O bank 7", C7 VCCIO7 (power) "VCC for I/O bank 7", C10 VCCIO6 (power) "VCC for I/O bank 6", C11 VCCIO6 (power) "VCC for I/O bank 6", C14 GND (power) "Ground", C15 TDI (in) "JTAG Test Data In", D4 GND (power) "Ground", D6 IO/VREF7 (io) "IO or Reference Voltage for Bank 7", D11 IO/VREF6 (io) "IO or Reference Voltage for Bank 6", D13 GND (power) "Ground", D14 TCLK (in) "JTAG Test Clock", E12 TMS (in) "JTAG Test Mode Select", F2 VCC (power) "Operating Voltage", F3 VCCIO0 (power) "VCC for I/O bank 0", F4 IO/VREF0 (io) "IO or Reference Voltage for Bank 0", F7 GCTL3 (in) "Global Control signal 3", F8 GCLK3 (in) "Global Clock signal 3", F9 GCTL2 (in) "Global Control signal 2", F10 GCLK2 (in) "Global Clock signal 2", F13 IO/VREF5 (io) "IO or Reference Voltage for Bank 5", F14 VCCIO5 (power) "VCC for I/O bank 5", F15 VCCJTAG (power) "VCC for JTAG pins", G2 NC "No Connection", G3 VCCIO0 (power) "VCC for I/O bank 0", G4 IO/VREF0 (io) "IO or Reference Voltage for Bank 0", G6 GCTL0 (in) "Global Control signal 0", G7 GND (power) "Ground", G8 GND (power) "Ground", G9 GND (power) "Ground", G10 GND (power) "Ground", G11 GCTL1 (in) "Global Control signal 1", G13 IO/VREF5 (io) "IO or Reference Voltage for Bank 5", G14 VCCIO5 (power) "VCC for I/O bank 5", G15 NC "No Connection", H4 IO/VREF0 (io) "IO or Reference Voltage for Bank 0", H6 GCLK0 (in) "Global Clock signal 0", H7 GND (power) "Ground", H8 GND (power) "Ground", H9 GND (power) "Ground", H10 GND (power) "Ground", H11 GCLK1 (in) "Global Clock signal 1", H13 IO/VREF5 (io) "IO or Reference Voltage for Bank 5", J7 GND (power) "Ground", J8 GND (power) "Ground", J9 GND (power) "Ground", J10 GND (power) "Ground", K2 VCCPRG (power) "VCC for programming Self-Boot solution embedded boot PROM", K3 VCCIO1 (power) "VCC for I/O bank 1", K4 IO/VREF1 (io) "IO or Reference Voltage for Bank 1", K7 GND (power) "Ground", K8 GND (power) "Ground", K9 GND (power) "Ground", K10 GND (power) "Ground", K13 IO/VREF4 (io) "IO or Reference Voltage for Bank 4", K14 VCCIO4 (power) "VCC for I/O bank 4", K15 VCCPRG (power) "VCC for programming Self-Boot solution embedded boot PROM", L2 NC "No Connection", L3 VCCIO1 (power) "VCC for I/O bank 1", L4 IO/VREF1 (io) "IO or Reference Voltage for Bank 1", L5 VCCCNFG (power) "VCC for Configuration port", L6 Config_Done (out) "Flag indicating that configuration is complete", L13 IO/VREF4 (io) "IO or Reference Voltage for Bank 4", L14 VCCIO4 (power) "VCC for I/O bank 4", L15 VCC (power) "Operating Voltage", M4 Data (in) "Pin to receive configuration data from the external boot PROM", M5 Reconfig (in) "Pin to start configuration of Delta39K", N1 IO/VREF1 (io) "IO or Reference Voltage for Bank 1", N4 GND (power) "Ground", N5 MSEL (in) "Mode Select Pin", N6 IO/VREF2 (io) "IO or Reference Voltage for Bank 2", N7 IO/VREF2 (io) "IO or Reference Voltage for Bank 2", N10 IO/VREF3 (io) "IO or Reference Voltage for Bank 3", N11 IO/VREF3 (io) "IO or Reference Voltage for Bank 3", N13 GND (power) "Ground", N16 IO/VREF4 (io) "IO or Reference Voltage for Bank 4", P3 GND (power) "Ground", P4 ~{CCE} (out) "Chip select for the external boot PROM (active low)", P6 VCCIO2 (power) "VCC for I/O bank 2", P7 VCCIO2 (power) "VCC for I/O bank 2", P10 VCCIO3 (power) "VCC for I/O bank 3", P11 VCCIO3 (power) "VCC for I/O bank 3", P14 GND (power) "Ground", R2 GND (power) "Ground", R3 CCLK (out) "Configuration Clock for serial interface with the external boot PROM", R6 VCCCNFG (power) "VCC for Configuration port", R7 VCCIO2 (power) "VCC for I/O bank 2", R10 VCC (power) "Operating Voltage", R11 VCCIO3 (power) "VCC for I/O bank 3", R15 GND (power) "Ground", T1 GND (power) "Ground", T2 Reset (out) "Reset signal to interface with the external boot PROM", T6 IO/VREF2 (io) "IO or Reference Voltage for Bank 2", T7 NC "No Connection", T10 NC "No Connection", T11 IO/VREF3 (io) "IO or Reference Voltage for Bank 3", T16 GND (power) "Ground"

## CY39030V256-125BBC
designator U?
Delta39K ISR CPLD, 3.3V/2.5V, 30K Gates, 125 MHz, 256-Ball FBGA, Commercial Grade; ComponentAvailability: Obsolete; Published: 11-Dec-2002; LatestRevisionDate: 13-Apr-2006; LatestRevisionNote: IPC-7351 Footprint Added.; DatasheetVersion: revI, Mar-2005; PackageVersion: revF, Oct-2003; PackageReference: BB256; Publisher: Altium Limited; PackageDescription: 256-Ball Fine Pitch Ball Grid Array 1 mm Pitch (37K & 39K CPLD Devices); Code_JEDEC: MO-192; ComponentLink1Description: Manufacturer Link; ComponentLink1URL: http://www.cypress.com/; ComponentLink2Description: Datasheet; ComponentLink2URL: http://www.cypress.com/portal/server.pt/gateway/PTARGS_0_601270_1522_209_0_43/http%3B/sjapp20.mis.cypress.com%3B7001/publishedcontent/publish/design_resources/datasheets/contents/cy39030v_5.pdf
footprint BB256 (BGA, 256-Leads, Body 17x17mm, Pitch 1mm)
3D model CY39030V256-BB256 (256-Ball Fine Pitch Ball Grid Array 1 mm Pitch (37K & 39K CPLD Devices))
part A pins: A2 IO7 (io) "IO for Bank 7", A3 IO7 (io) "IO for Bank 7", A4 IO7 (io) "IO for Bank 7", A5 IO7 (io) "IO for Bank 7", A8 IO6/Lock (io) "IO in Bank 6 or PLL lock output signal", A9 IO6 (io) "IO for Bank 6", A12 IO6 (io) "IO for Bank 6", A13 IO6 (io) "IO for Bank 6", A14 IO6 (io) "IO for Bank 6", A15 IO6 (io) "IO for Bank 6", B1 IO0 (io) "IO for Bank 0", B3 IO7 (io) "IO for Bank 7", B4 IO7 (io) "IO for Bank 7", B5 IO7 (io) "IO for Bank 7", B12 IO6 (io) "IO for Bank 6", B13 IO6 (io) "IO for Bank 6", B14 IO6 (io) "IO for Bank 6", C1 IO0 (io) "IO for Bank 0", C2 IO0 (io) "IO for Bank 0", C4 IO7 (io) "IO for Bank 7", C5 IO7 (io) "IO for Bank 7", C8 NC "No Connection", C9 IO6 (io) "IO for Bank 6", C12 IO6 (io) "IO for Bank 6", C13 IO6 (io) "IO for Bank 6", C16 IO5 (io) "IO for Bank 5", D1 IO0 (io) "IO for Bank 0", D2 IO0 (io) "IO for Bank 0", D3 IO0 (io) "IO for Bank 0", D5 IO7 (io) "IO for Bank 7", D7 IO7 (io) "IO for Bank 7", D8 IO7 (io) "IO for Bank 7", D9 NC "No Connection", D10 IO6 (io) "IO for Bank 6", D12 IO6 (io) "IO for Bank 6", D15 IO5 (io) "IO for Bank 5", D16 IO5 (io) "IO for Bank 5", E1 IO0 (io) "IO for Bank 0", E2 IO0 (io) "IO for Bank 0", E3 IO0 (io) "IO for Bank 0", E4 IO0 (io) "IO for Bank 0", E5 IO7 (io) "IO for Bank 7", E6 IO7 (io) "IO for Bank 7", E7 IO7 (io) "IO for Bank 7", E8 IO7 (io) "IO for Bank 7", E9 IO6 (io) "IO for Bank 6", E10 IO6 (io) "IO for Bank 6", E11 IO6 (io) "IO for Bank 6", E13 IO5 (io) "IO for Bank 5", E14 IO5 (io) "IO for Bank 5", E15 IO5 (io) "IO for Bank 5", E16 IO5 (io) "IO for Bank 5", F1 IO0 (io) "IO for Bank 0", F5 IO0 (io) "IO for Bank 0", F6 IO7 (io) "IO for Bank 7", F11 IO5 (io) "IO for Bank 5", F12 IO5 (io) "IO for Bank 5", F16 IO5 (io) "IO for Bank 5", G1 IO0 (io) "IO for Bank 0", G5 IO0 (io) "IO for Bank 0", G12 IO5 (io) "IO for Bank 5", G16 IO5 (io) "IO for Bank 5", H1 IO0 (io) "IO for Bank 0", H2 IO0 (io) "IO for Bank 0", H3 IO0 (io) "IO for Bank 0", H5 IO0 (io) "IO for Bank 0", H12 IO5 (io) "IO for Bank 5", H14 IO5 (io) "IO for Bank 5", H15 IO5 (io) "IO for Bank 5", H16 IO5 (io) "IO for Bank 5", J1 IO1 (io) "IO for Bank 1", J2 IO1 (io) "IO for Bank 1", J3 IO1 (io) "IO for Bank 1", J4 IO1 (io) "IO for Bank 1", J5 IO1 (io) "IO for Bank 1", J6 IO1 (io) "IO for Bank 1", J11 IO4 (io) "IO for Bank 4", J12 IO4 (io) "IO for Bank 4", J13 IO4 (io) "IO for Bank 4", J14 IO4 (io) "IO for Bank 4", J15 IO5 (io) "IO for Bank 5", J16 IO5 (io) "IO for Bank 5", K1 IO1 (io) "IO for Bank 1", K5 IO1 (io) "IO for Bank 1", K6 IO1 (io) "IO for Bank 1", K11 IO4 (io) "IO for Bank 4", K12 IO4 (io) "IO for Bank 4", K16 IO4 (io) "IO for Bank 4", L1 IO1 (io) "IO for Bank 1", L7 IO2 (io) "IO for Bank 2", L8 IO2 (io) "IO for Bank 2", L9 IO3 (io) "IO for Bank 3", L10 IO3 (io) "IO for Bank 3", L11 IO3 (io) "IO for Bank 3", L12 IO4 (io) "IO for Bank 4", L16 IO4 (io) "IO for Bank 4", M1 IO1 (io) "IO for Bank 1", M2 IO1 (io) "IO for Bank 1", M3 IO1 (io) "IO for Bank 1", M6 IO2 (io) "IO for Bank 2", M7 IO2 (io) "IO for Bank 2", M8 IO2 (io) "IO for Bank 2", M9 IO3 (io) "IO for Bank 3", M10 IO3 (io) "IO for Bank 3", M11 IO3 (io) "IO for Bank 3", M12 IO3 (io) "IO for Bank 3", M13 IO4 (io) "IO for Bank 4", M14 IO4 (io) "IO for Bank 4", M15 IO4 (io) "IO for Bank 4", M16 IO4 (io) "IO for Bank 4", N2 IO1 (io) "IO for Bank 1", N3 IO1 (io) "IO for Bank 1", N8 IO2 (io) "IO for Bank 2", N9 IO3 (io) "IO for Bank 3", N12 IO3 (io) "IO for Bank 3", N14 IO4 (io) "IO for Bank 4", N15 IO4 (io) "IO for Bank 4", P1 IO1 (io) "IO for Bank 1", P2 IO1 (io) "IO for Bank 1", P5 IO2 (io) "IO for Bank 2", P8 IO2 (io) "IO for Bank 2", P9 IO2 (io) "IO for Bank 2", P12 IO3 (io) "IO for Bank 3", P13 IO3 (io) "IO for Bank 3", P15 IO4 (io) "IO for Bank 4", P16 IO4 (io) "IO for Bank 4", R1 IO1 (io) "IO for Bank 1", R4 IO2 (io) "IO for Bank 2", R5 IO2 (io) "IO for Bank 2", R8 IO2 (io) "IO for Bank 2", R9 IO2 (io) "IO for Bank 2", R12 IO3 (io) "IO for Bank 3", R13 IO3 (io) "IO for Bank 3", R14 IO3 (io) "IO for Bank 3", R16 IO4 (io) "IO for Bank 4", T3 IO2 (io) "IO for Bank 2", T4 IO2 (io) "IO for Bank 2", T5 IO2 (io) "IO for Bank 2", T8 IO2 (io) "IO for Bank 2", T9 IO2 (io) "IO for Bank 2", T12 IO3 (io) "IO for Bank 3", T13 IO3 (io) "IO for Bank 3", T14 IO3 (io) "IO for Bank 3", T15 IO3 (io) "IO for Bank 3"
part B pins: A1 GND (power) "Ground", A6 IO/VREF7 (io) "IO or Reference Voltage for Bank 7", A7 NC "No Connection", A10 IO/VREF6 (io) "IO or Reference Voltage for Bank 6", A11 IO/VREF6 (io) "IO or Reference Voltage for Bank 6", A16 GND (power) "Ground", B2 GND (power) "Ground", B6 VCCIO7 (power) "VCC for I/O bank 7", B7 VCC (power) "Operating Voltage", B8 IO/VREF7 (io) "IO or Reference Voltage for Bank 7", B9 NC "No Connection", B10 VCCPLL (power) "VCC for PLL", B11 VCCIO6 (power) "VCC for I/O bank 6", B15 GND (power) "Ground", B16 TDO (out) "JTAG Test Data Out", C3 GND (power) "Ground", C6 VCCIO7 (power) "VCC for I/O bank 7", C7 VCCIO7 (power) "VCC for I/O bank 7", C10 VCCIO6 (power) "VCC for I/O bank 6", C11 VCCIO6 (power) "VCC for I/O bank 6", C14 GND (power) "Ground", C15 TDI (in) "JTAG Test Data In", D4 GND (power) "Ground", D6 IO/VREF7 (io) "IO or Reference Voltage for Bank 7", D11 IO/VREF6 (io) "IO or Reference Voltage for Bank 6", D13 GND (power) "Ground", D14 TCLK (in) "JTAG Test Clock", E12 TMS (in) "JTAG Test Mode Select", F2 VCC (power) "Operating Voltage", F3 VCCIO0 (power) "VCC for I/O bank 0", F4 IO/VREF0 (io) "IO or Reference Voltage for Bank 0", F7 GCTL3 (in) "Global Control signal 3", F8 GCLK3 (in) "Global Clock signal 3", F9 GCTL2 (in) "Global Control signal 2", F10 GCLK2 (in) "Global Clock signal 2", F13 IO/VREF5 (io) "IO or Reference Voltage for Bank 5", F14 VCCIO5 (power) "VCC for I/O bank 5", F15 VCCJTAG (power) "VCC for JTAG pins", G2 NC "No Connection", G3 VCCIO0 (power) "VCC for I/O bank 0", G4 IO/VREF0 (io) "IO or Reference Voltage for Bank 0", G6 GCTL0 (in) "Global Control signal 0", G7 GND (power) "Ground", G8 GND (power) "Ground", G9 GND (power) "Ground", G10 GND (power) "Ground", G11 GCTL1 (in) "Global Control signal 1", G13 IO/VREF5 (io) "IO or Reference Voltage for Bank 5", G14 VCCIO5 (power) "VCC for I/O bank 5", G15 NC "No Connection", H4 IO/VREF0 (io) "IO or Reference Voltage for Bank 0", H6 GCLK0 (in) "Global Clock signal 0", H7 GND (power) "Ground", H8 GND (power) "Ground", H9 GND (power) "Ground", H10 GND (power) "Ground", H11 GCLK1 (in) "Global Clock signal 1", H13 IO/VREF5 (io) "IO or Reference Voltage for Bank 5", J7 GND (power) "Ground", J8 GND (power) "Ground", J9 GND (power) "Ground", J10 GND (power) "Ground", K2 VCCPRG (power) "VCC for programming Self-Boot solution embedded boot PROM", K3 VCCIO1 (power) "VCC for I/O bank 1", K4 IO/VREF1 (io) "IO or Reference Voltage for Bank 1", K7 GND (power) "Ground", K8 GND (power) "Ground", K9 GND (power) "Ground", K10 GND (power) "Ground", K13 IO/VREF4 (io) "IO or Reference Voltage for Bank 4", K14 VCCIO4 (power) "VCC for I/O bank 4", K15 VCCPRG (power) "VCC for programming Self-Boot solution embedded boot PROM", L2 NC "No Connection", L3 VCCIO1 (power) "VCC for I/O bank 1", L4 IO/VREF1 (io) "IO or Reference Voltage for Bank 1", L5 VCCCNFG (power) "VCC for Configuration port", L6 Config_Done (out) "Flag indicating that configuration is complete", L13 IO/VREF4 (io) "IO or Reference Voltage for Bank 4", L14 VCCIO4 (power) "VCC for I/O bank 4", L15 VCC (power) "Operating Voltage", M4 Data (in) "Pin to receive configuration data from the external boot PROM", M5 Reconfig (in) "Pin to start configuration of Delta39K", N1 IO/VREF1 (io) "IO or Reference Voltage for Bank 1", N4 GND (power) "Ground", N5 MSEL (in) "Mode Select Pin", N6 IO/VREF2 (io) "IO or Reference Voltage for Bank 2", N7 IO/VREF2 (io) "IO or Reference Voltage for Bank 2", N10 IO/VREF3 (io) "IO or Reference Voltage for Bank 3", N11 IO/VREF3 (io) "IO or Reference Voltage for Bank 3", N13 GND (power) "Ground", N16 IO/VREF4 (io) "IO or Reference Voltage for Bank 4", P3 GND (power) "Ground", P4 ~{CCE} (out) "Chip select for the external boot PROM (active low)", P6 VCCIO2 (power) "VCC for I/O bank 2", P7 VCCIO2 (power) "VCC for I/O bank 2", P10 VCCIO3 (power) "VCC for I/O bank 3", P11 VCCIO3 (power) "VCC for I/O bank 3", P14 GND (power) "Ground", R2 GND (power) "Ground", R3 CCLK (out) "Configuration Clock for serial interface with the external boot PROM", R6 VCCCNFG (power) "VCC for Configuration port", R7 VCCIO2 (power) "VCC for I/O bank 2", R10 VCC (power) "Operating Voltage", R11 VCCIO3 (power) "VCC for I/O bank 3", R15 GND (power) "Ground", T1 GND (power) "Ground", T2 Reset (out) "Reset signal to interface with the external boot PROM", T6 IO/VREF2 (io) "IO or Reference Voltage for Bank 2", T7 NC "No Connection", T10 NC "No Connection", T11 IO/VREF3 (io) "IO or Reference Voltage for Bank 3", T16 GND (power) "Ground"

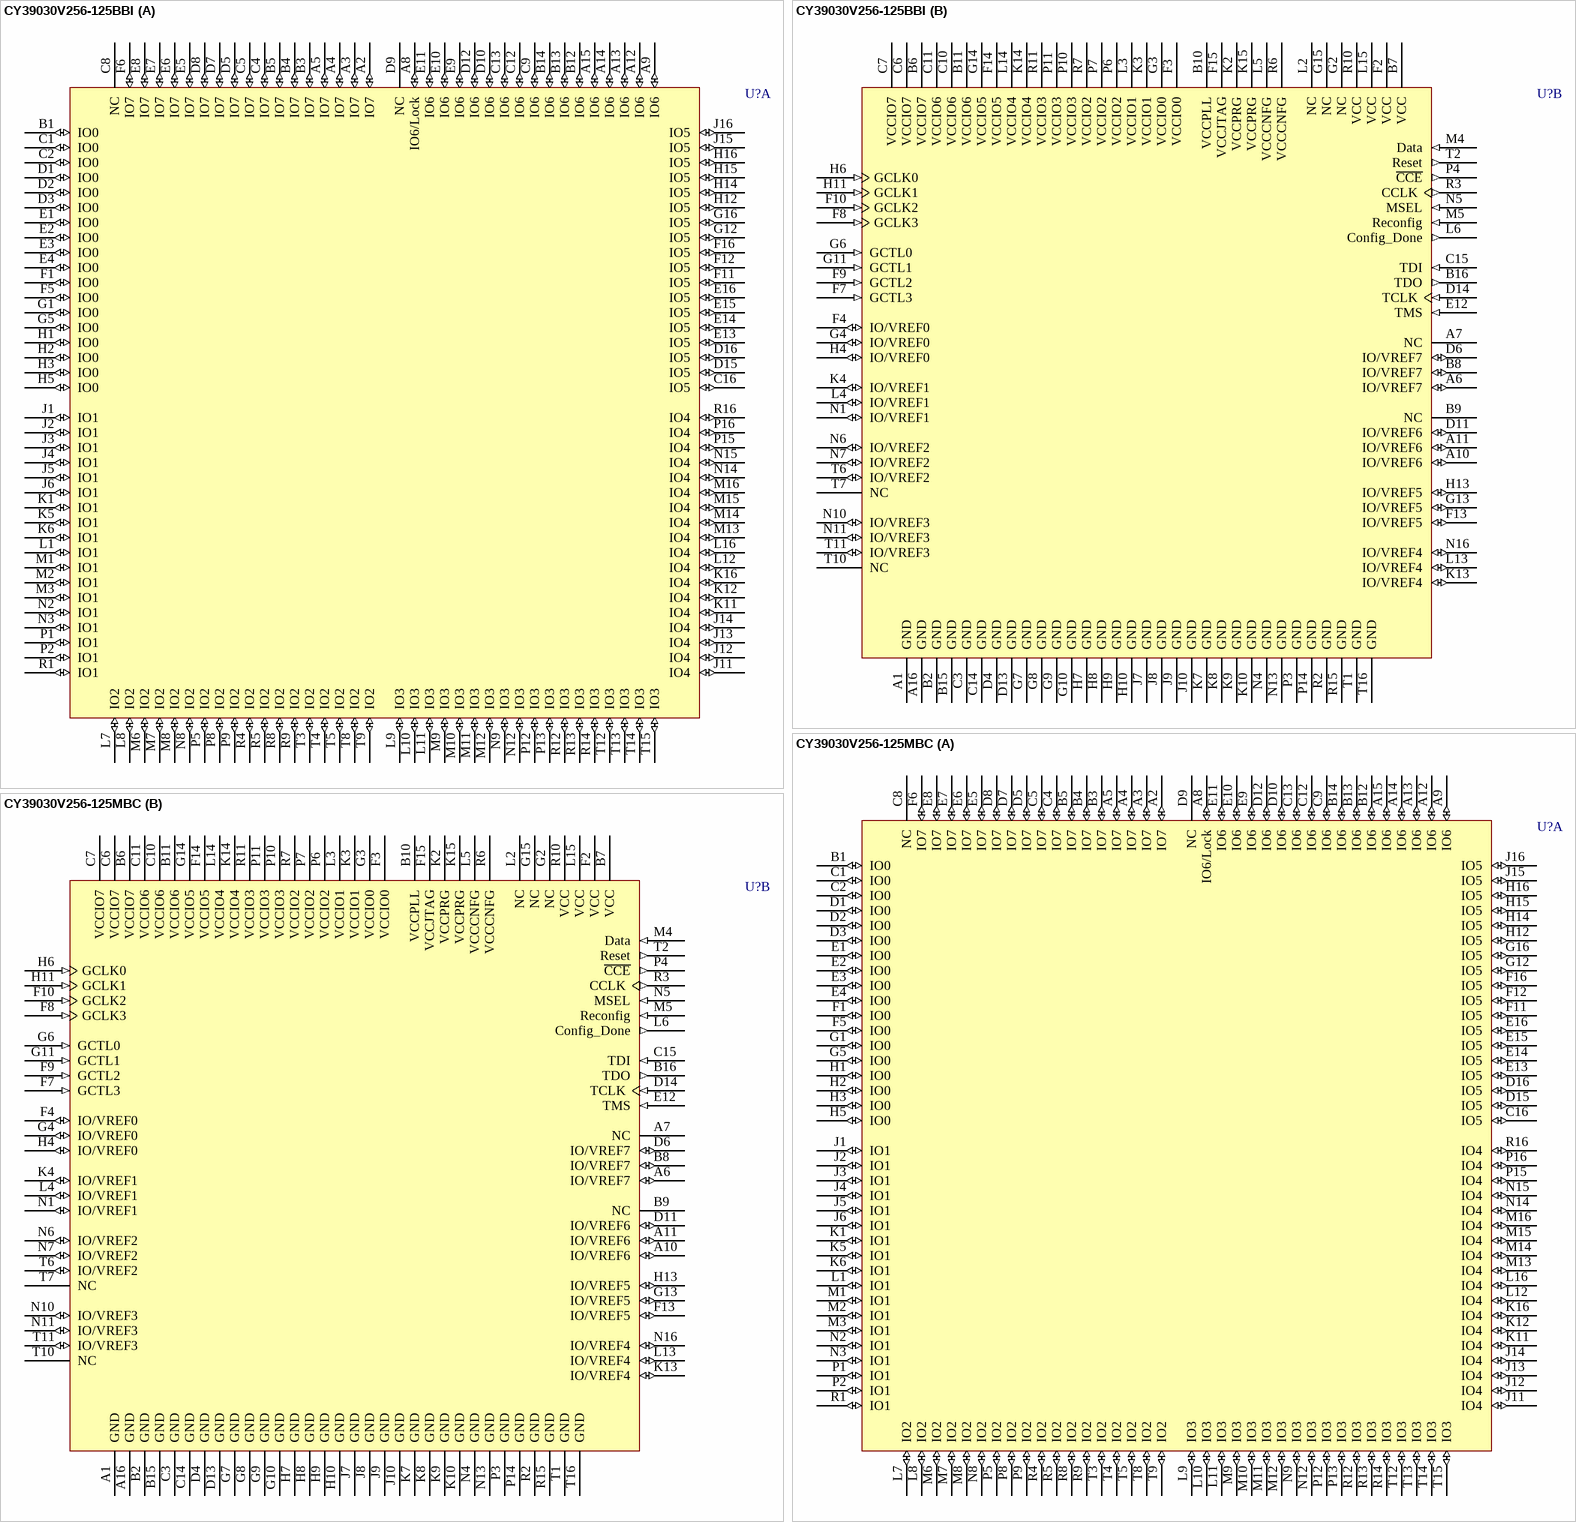
[diagram p7: symbols CY39030V256-125BBI to CY39030V256-125MBC]

## CY39030V256-125BBI
designator U?
Delta39K ISR CPLD, 3.3V/2.5V, 30K Gates, 125 MHz, 256-Ball FBGA, Industrial Grade; ComponentAvailability: Obsolete; Published: 11-Dec-2002; LatestRevisionDate: 13-Apr-2006; LatestRevisionNote: IPC-7351 Footprint Added.; DatasheetVersion: revI, Mar-2005; PackageVersion: revF, Oct-2003; PackageReference: BB256; Publisher: Altium Limited; PackageDescription: 256-Ball Fine Pitch Ball Grid Array 1 mm Pitch (37K & 39K CPLD Devices); Code_JEDEC: MO-192; ComponentLink1Description: Manufacturer Link; ComponentLink1URL: http://www.cypress.com/; ComponentLink2Description: Datasheet; ComponentLink2URL: http://www.cypress.com/portal/server.pt/gateway/PTARGS_0_601270_1522_209_0_43/http%3B/sjapp20.mis.cypress.com%3B7001/publishedcontent/publish/design_resources/datasheets/contents/cy39030v_5.pdf
footprint BB256 (BGA, 256-Leads, Body 17x17mm, Pitch 1mm)
3D model CY39030V256-BB256 (256-Ball Fine Pitch Ball Grid Array 1 mm Pitch (37K & 39K CPLD Devices))
part A pins: A2 IO7 (io) "IO for Bank 7", A3 IO7 (io) "IO for Bank 7", A4 IO7 (io) "IO for Bank 7", A5 IO7 (io) "IO for Bank 7", A8 IO6/Lock (io) "IO in Bank 6 or PLL lock output signal", A9 IO6 (io) "IO for Bank 6", A12 IO6 (io) "IO for Bank 6", A13 IO6 (io) "IO for Bank 6", A14 IO6 (io) "IO for Bank 6", A15 IO6 (io) "IO for Bank 6", B1 IO0 (io) "IO for Bank 0", B3 IO7 (io) "IO for Bank 7", B4 IO7 (io) "IO for Bank 7", B5 IO7 (io) "IO for Bank 7", B12 IO6 (io) "IO for Bank 6", B13 IO6 (io) "IO for Bank 6", B14 IO6 (io) "IO for Bank 6", C1 IO0 (io) "IO for Bank 0", C2 IO0 (io) "IO for Bank 0", C4 IO7 (io) "IO for Bank 7", C5 IO7 (io) "IO for Bank 7", C8 NC "No Connection", C9 IO6 (io) "IO for Bank 6", C12 IO6 (io) "IO for Bank 6", C13 IO6 (io) "IO for Bank 6", C16 IO5 (io) "IO for Bank 5", D1 IO0 (io) "IO for Bank 0", D2 IO0 (io) "IO for Bank 0", D3 IO0 (io) "IO for Bank 0", D5 IO7 (io) "IO for Bank 7", D7 IO7 (io) "IO for Bank 7", D8 IO7 (io) "IO for Bank 7", D9 NC "No Connection", D10 IO6 (io) "IO for Bank 6", D12 IO6 (io) "IO for Bank 6", D15 IO5 (io) "IO for Bank 5", D16 IO5 (io) "IO for Bank 5", E1 IO0 (io) "IO for Bank 0", E2 IO0 (io) "IO for Bank 0", E3 IO0 (io) "IO for Bank 0", E4 IO0 (io) "IO for Bank 0", E5 IO7 (io) "IO for Bank 7", E6 IO7 (io) "IO for Bank 7", E7 IO7 (io) "IO for Bank 7", E8 IO7 (io) "IO for Bank 7", E9 IO6 (io) "IO for Bank 6", E10 IO6 (io) "IO for Bank 6", E11 IO6 (io) "IO for Bank 6", E13 IO5 (io) "IO for Bank 5", E14 IO5 (io) "IO for Bank 5", E15 IO5 (io) "IO for Bank 5", E16 IO5 (io) "IO for Bank 5", F1 IO0 (io) "IO for Bank 0", F5 IO0 (io) "IO for Bank 0", F6 IO7 (io) "IO for Bank 7", F11 IO5 (io) "IO for Bank 5", F12 IO5 (io) "IO for Bank 5", F16 IO5 (io) "IO for Bank 5", G1 IO0 (io) "IO for Bank 0", G5 IO0 (io) "IO for Bank 0", G12 IO5 (io) "IO for Bank 5", G16 IO5 (io) "IO for Bank 5", H1 IO0 (io) "IO for Bank 0", H2 IO0 (io) "IO for Bank 0", H3 IO0 (io) "IO for Bank 0", H5 IO0 (io) "IO for Bank 0", H12 IO5 (io) "IO for Bank 5", H14 IO5 (io) "IO for Bank 5", H15 IO5 (io) "IO for Bank 5", H16 IO5 (io) "IO for Bank 5", J1 IO1 (io) "IO for Bank 1", J2 IO1 (io) "IO for Bank 1", J3 IO1 (io) "IO for Bank 1", J4 IO1 (io) "IO for Bank 1", J5 IO1 (io) "IO for Bank 1", J6 IO1 (io) "IO for Bank 1", J11 IO4 (io) "IO for Bank 4", J12 IO4 (io) "IO for Bank 4", J13 IO4 (io) "IO for Bank 4", J14 IO4 (io) "IO for Bank 4", J15 IO5 (io) "IO for Bank 5", J16 IO5 (io) "IO for Bank 5", K1 IO1 (io) "IO for Bank 1", K5 IO1 (io) "IO for Bank 1", K6 IO1 (io) "IO for Bank 1", K11 IO4 (io) "IO for Bank 4", K12 IO4 (io) "IO for Bank 4", K16 IO4 (io) "IO for Bank 4", L1 IO1 (io) "IO for Bank 1", L7 IO2 (io) "IO for Bank 2", L8 IO2 (io) "IO for Bank 2", L9 IO3 (io) "IO for Bank 3", L10 IO3 (io) "IO for Bank 3", L11 IO3 (io) "IO for Bank 3", L12 IO4 (io) "IO for Bank 4", L16 IO4 (io) "IO for Bank 4", M1 IO1 (io) "IO for Bank 1", M2 IO1 (io) "IO for Bank 1", M3 IO1 (io) "IO for Bank 1", M6 IO2 (io) "IO for Bank 2", M7 IO2 (io) "IO for Bank 2", M8 IO2 (io) "IO for Bank 2", M9 IO3 (io) "IO for Bank 3", M10 IO3 (io) "IO for Bank 3", M11 IO3 (io) "IO for Bank 3", M12 IO3 (io) "IO for Bank 3", M13 IO4 (io) "IO for Bank 4", M14 IO4 (io) "IO for Bank 4", M15 IO4 (io) "IO for Bank 4", M16 IO4 (io) "IO for Bank 4", N2 IO1 (io) "IO for Bank 1", N3 IO1 (io) "IO for Bank 1", N8 IO2 (io) "IO for Bank 2", N9 IO3 (io) "IO for Bank 3", N12 IO3 (io) "IO for Bank 3", N14 IO4 (io) "IO for Bank 4", N15 IO4 (io) "IO for Bank 4", P1 IO1 (io) "IO for Bank 1", P2 IO1 (io) "IO for Bank 1", P5 IO2 (io) "IO for Bank 2", P8 IO2 (io) "IO for Bank 2", P9 IO2 (io) "IO for Bank 2", P12 IO3 (io) "IO for Bank 3", P13 IO3 (io) "IO for Bank 3", P15 IO4 (io) "IO for Bank 4", P16 IO4 (io) "IO for Bank 4", R1 IO1 (io) "IO for Bank 1", R4 IO2 (io) "IO for Bank 2", R5 IO2 (io) "IO for Bank 2", R8 IO2 (io) "IO for Bank 2", R9 IO2 (io) "IO for Bank 2", R12 IO3 (io) "IO for Bank 3", R13 IO3 (io) "IO for Bank 3", R14 IO3 (io) "IO for Bank 3", R16 IO4 (io) "IO for Bank 4", T3 IO2 (io) "IO for Bank 2", T4 IO2 (io) "IO for Bank 2", T5 IO2 (io) "IO for Bank 2", T8 IO2 (io) "IO for Bank 2", T9 IO2 (io) "IO for Bank 2", T12 IO3 (io) "IO for Bank 3", T13 IO3 (io) "IO for Bank 3", T14 IO3 (io) "IO for Bank 3", T15 IO3 (io) "IO for Bank 3"
part B pins: A1 GND (power) "Ground", A6 IO/VREF7 (io) "IO or Reference Voltage for Bank 7", A7 NC "No Connection", A10 IO/VREF6 (io) "IO or Reference Voltage for Bank 6", A11 IO/VREF6 (io) "IO or Reference Voltage for Bank 6", A16 GND (power) "Ground", B2 GND (power) "Ground", B6 VCCIO7 (power) "VCC for I/O bank 7", B7 VCC (power) "Operating Voltage", B8 IO/VREF7 (io) "IO or Reference Voltage for Bank 7", B9 NC "No Connection", B10 VCCPLL (power) "VCC for PLL", B11 VCCIO6 (power) "VCC for I/O bank 6", B15 GND (power) "Ground", B16 TDO (out) "JTAG Test Data Out", C3 GND (power) "Ground", C6 VCCIO7 (power) "VCC for I/O bank 7", C7 VCCIO7 (power) "VCC for I/O bank 7", C10 VCCIO6 (power) "VCC for I/O bank 6", C11 VCCIO6 (power) "VCC for I/O bank 6", C14 GND (power) "Ground", C15 TDI (in) "JTAG Test Data In", D4 GND (power) "Ground", D6 IO/VREF7 (io) "IO or Reference Voltage for Bank 7", D11 IO/VREF6 (io) "IO or Reference Voltage for Bank 6", D13 GND (power) "Ground", D14 TCLK (in) "JTAG Test Clock", E12 TMS (in) "JTAG Test Mode Select", F2 VCC (power) "Operating Voltage", F3 VCCIO0 (power) "VCC for I/O bank 0", F4 IO/VREF0 (io) "IO or Reference Voltage for Bank 0", F7 GCTL3 (in) "Global Control signal 3", F8 GCLK3 (in) "Global Clock signal 3", F9 GCTL2 (in) "Global Control signal 2", F10 GCLK2 (in) "Global Clock signal 2", F13 IO/VREF5 (io) "IO or Reference Voltage for Bank 5", F14 VCCIO5 (power) "VCC for I/O bank 5", F15 VCCJTAG (power) "VCC for JTAG pins", G2 NC "No Connection", G3 VCCIO0 (power) "VCC for I/O bank 0", G4 IO/VREF0 (io) "IO or Reference Voltage for Bank 0", G6 GCTL0 (in) "Global Control signal 0", G7 GND (power) "Ground", G8 GND (power) "Ground", G9 GND (power) "Ground", G10 GND (power) "Ground", G11 GCTL1 (in) "Global Control signal 1", G13 IO/VREF5 (io) "IO or Reference Voltage for Bank 5", G14 VCCIO5 (power) "VCC for I/O bank 5", G15 NC "No Connection", H4 IO/VREF0 (io) "IO or Reference Voltage for Bank 0", H6 GCLK0 (in) "Global Clock signal 0", H7 GND (power) "Ground", H8 GND (power) "Ground", H9 GND (power) "Ground", H10 GND (power) "Ground", H11 GCLK1 (in) "Global Clock signal 1", H13 IO/VREF5 (io) "IO or Reference Voltage for Bank 5", J7 GND (power) "Ground", J8 GND (power) "Ground", J9 GND (power) "Ground", J10 GND (power) "Ground", K2 VCCPRG (power) "VCC for programming Self-Boot solution embedded boot PROM", K3 VCCIO1 (power) "VCC for I/O bank 1", K4 IO/VREF1 (io) "IO or Reference Voltage for Bank 1", K7 GND (power) "Ground", K8 GND (power) "Ground", K9 GND (power) "Ground", K10 GND (power) "Ground", K13 IO/VREF4 (io) "IO or Reference Voltage for Bank 4", K14 VCCIO4 (power) "VCC for I/O bank 4", K15 VCCPRG (power) "VCC for programming Self-Boot solution embedded boot PROM", L2 NC "No Connection", L3 VCCIO1 (power) "VCC for I/O bank 1", L4 IO/VREF1 (io) "IO or Reference Voltage for Bank 1", L5 VCCCNFG (power) "VCC for Configuration port", L6 Config_Done (out) "Flag indicating that configuration is complete", L13 IO/VREF4 (io) "IO or Reference Voltage for Bank 4", L14 VCCIO4 (power) "VCC for I/O bank 4", L15 VCC (power) "Operating Voltage", M4 Data (in) "Pin to receive configuration data from the external boot PROM", M5 Reconfig (in) "Pin to start configuration of Delta39K", N1 IO/VREF1 (io) "IO or Reference Voltage for Bank 1", N4 GND (power) "Ground", N5 MSEL (in) "Mode Select Pin", N6 IO/VREF2 (io) "IO or Reference Voltage for Bank 2", N7 IO/VREF2 (io) "IO or Reference Voltage for Bank 2", N10 IO/VREF3 (io) "IO or Reference Voltage for Bank 3", N11 IO/VREF3 (io) "IO or Reference Voltage for Bank 3", N13 GND (power) "Ground", N16 IO/VREF4 (io) "IO or Reference Voltage for Bank 4", P3 GND (power) "Ground", P4 ~{CCE} (out) "Chip select for the external boot PROM (active low)", P6 VCCIO2 (power) "VCC for I/O bank 2", P7 VCCIO2 (power) "VCC for I/O bank 2", P10 VCCIO3 (power) "VCC for I/O bank 3", P11 VCCIO3 (power) "VCC for I/O bank 3", P14 GND (power) "Ground", R2 GND (power) "Ground", R3 CCLK (out) "Configuration Clock for serial interface with the external boot PROM", R6 VCCCNFG (power) "VCC for Configuration port", R7 VCCIO2 (power) "VCC for I/O bank 2", R10 VCC (power) "Operating Voltage", R11 VCCIO3 (power) "VCC for I/O bank 3", R15 GND (power) "Ground", T1 GND (power) "Ground", T2 Reset (out) "Reset signal to interface with the external boot PROM", T6 IO/VREF2 (io) "IO or Reference Voltage for Bank 2", T7 NC "No Connection", T10 NC "No Connection", T11 IO/VREF3 (io) "IO or Reference Voltage for Bank 3", T16 GND (power) "Ground"